# Altium schematic symbol library WE-SPXO.SchLib: 254 symbols (part 3 of 5)
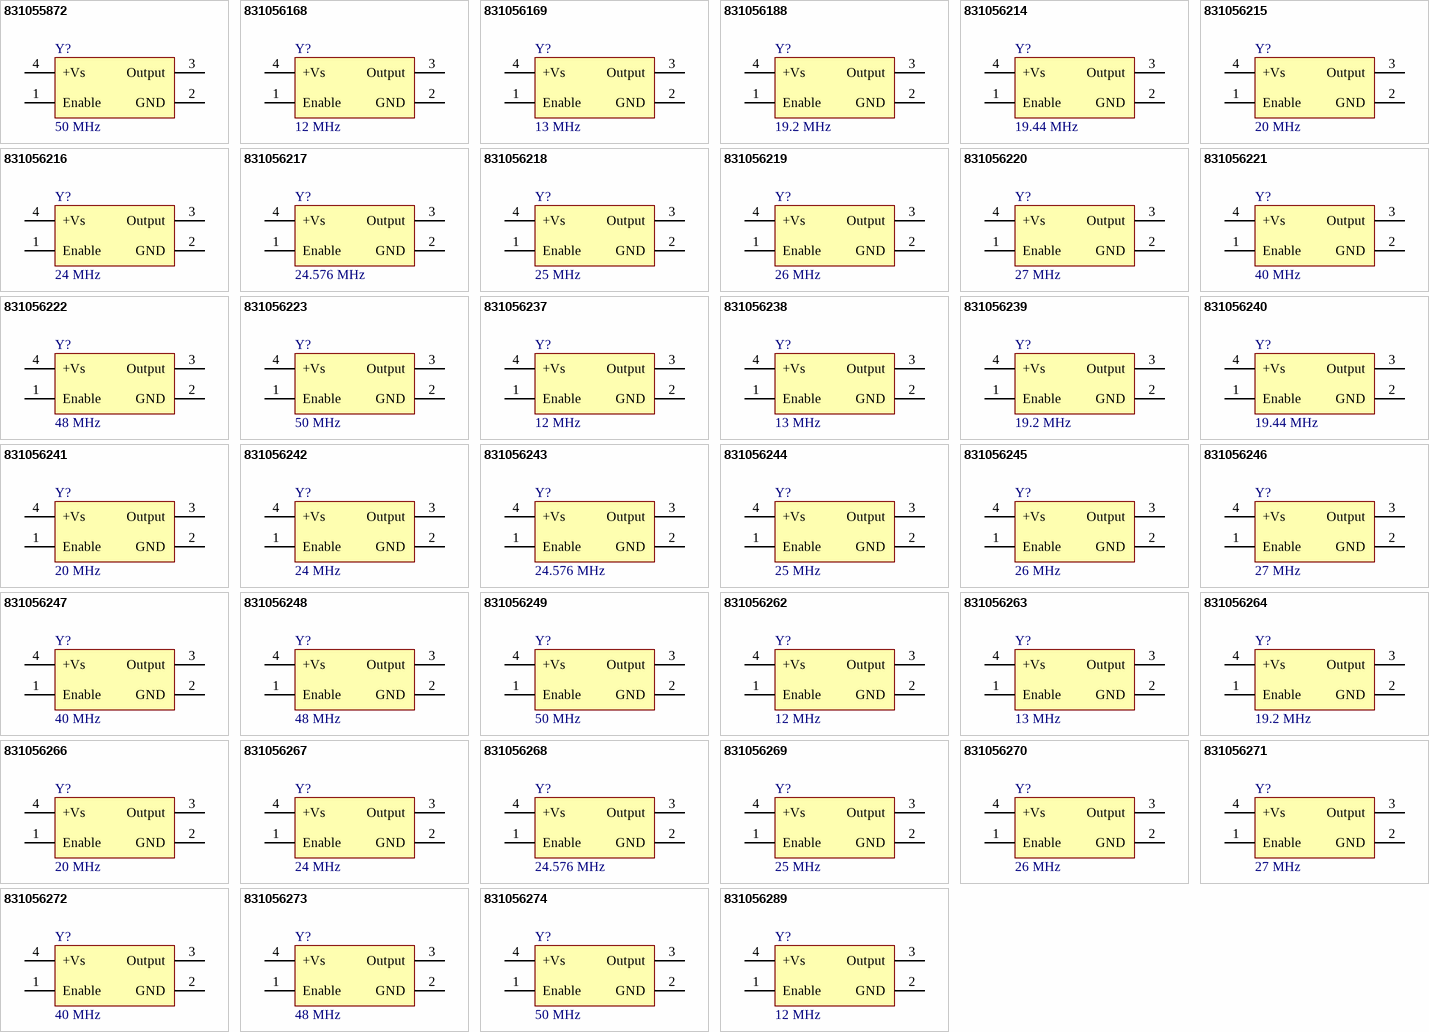
[diagram p8: symbols 831055872 to 831056289]

## 831056272
designator Y?, comment 40 MHz
WE-SPXO Simple Packaged Quartz Oscillator, IQXO-794, 40 MHz, 50 ppm, 1.8 V; Manufacturer Part Number: 831056272; Manufacturer: Wurth Elektronik; Frequency Stability: 50 ppm; Output Logic: CMOS; Supply Voltage: 1.8 V; Category: Oscillators; Match Code: WE-SPXO; ComponentLink1Description: Website Link; ComponentLink1URL: https://www.we-online.com/redexpert/article/831056272?ad; ComponentLink2Description: Datasheet Link; ComponentLink2URL: https://www.we-online.com/redexpert/spec/831056272?ad; Mount: Surface Mount; Min Operating Temperature: -40 °C; Max Operating Temperature: 85 °C; Packaging: Tape and Reel; Case/Size Code: IQXO-794; Length: 2.5 mm; Width: 2 mm; Height: 1 mm; Application: Processor, USB, 3G/4G/5G, CAN, Wi-Fi; Frequency: 40 MHz
footprint WE-SPXO_IQXO-794
pins: 1 Enable, 2 GND, 3 Output, 4 +Vs

## 831056273
designator Y?, comment 48 MHz
WE-SPXO Simple Packaged Quartz Oscillator, IQXO-794, 48 MHz, 50 ppm, 1.8 V; Manufacturer Part Number: 831056273; Manufacturer: Wurth Elektronik; Frequency Stability: 50 ppm; Output Logic: CMOS; Supply Voltage: 1.8 V; Category: Oscillators; Match Code: WE-SPXO; ComponentLink1Description: Website Link; ComponentLink1URL: https://www.we-online.com/redexpert/article/831056273?ad; ComponentLink2Description: Datasheet Link; ComponentLink2URL: https://www.we-online.com/redexpert/spec/831056273?ad; Mount: Surface Mount; Min Operating Temperature: -40 °C; Max Operating Temperature: 85 °C; Packaging: Tape and Reel; Case/Size Code: IQXO-794; Length: 2.5 mm; Width: 2 mm; Height: 1 mm; Application: Processor, USB, Wi-Fi; Frequency: 48 MHz
footprint WE-SPXO_IQXO-794
pins: 1 Enable, 2 GND, 3 Output, 4 +Vs

## 831056274
designator Y?, comment 50 MHz
WE-SPXO Simple Packaged Quartz Oscillator, IQXO-794, 50 MHz, 50 ppm, 1.8 V; Manufacturer Part Number: 831056274; Manufacturer: Wurth Elektronik; Frequency Stability: 50 ppm; Output Logic: CMOS; Supply Voltage: 1.8 V; Category: Oscillators; Match Code: WE-SPXO; ComponentLink1Description: Website Link; ComponentLink1URL: https://www.we-online.com/redexpert/article/831056274?ad; ComponentLink2Description: Datasheet Link; ComponentLink2URL: https://www.we-online.com/redexpert/spec/831056274?ad; Mount: Surface Mount; Min Operating Temperature: -40 °C; Max Operating Temperature: 85 °C; Packaging: Tape and Reel; Case/Size Code: IQXO-794; Length: 2.5 mm; Width: 2 mm; Height: 1 mm; Application: Processor, Ethernet, PCI Express, PHY; Frequency: 50 MHz
footprint WE-SPXO_IQXO-794
pins: 1 Enable, 2 GND, 3 Output, 4 +Vs

## 831056289
designator Y?, comment 12 MHz
WE-SPXO Simple Packaged Quartz Oscillator, IQXO-791, 12 MHz, 50 ppm, 3.3 V; Manufacturer Part Number: 831056289; Manufacturer: Wurth Elektronik; Frequency Stability: 50 ppm; Output Logic: CMOS; Supply Voltage: 3.3 V; Category: Oscillators; Match Code: WE-SPXO; ComponentLink1Description: Website Link; ComponentLink1URL: https://www.we-online.com/redexpert/article/831056289?ad; ComponentLink2Description: Datasheet Link; ComponentLink2URL: https://www.we-online.com/redexpert/spec/831056289?ad; Mount: Surface Mount; Min Operating Temperature: -40 °C; Max Operating Temperature: 85 °C; Packaging: Tape and Reel; Case/Size Code: IQXO-791; Length: 2.5 mm; Width: 2 mm; Height: 1 mm; Application: Processor, USB, CAN; Frequency: 12 MHz
footprint WE-SPXO_IQXO-791
pins: 1 Enable, 2 GND, 3 Output, 4 +Vs

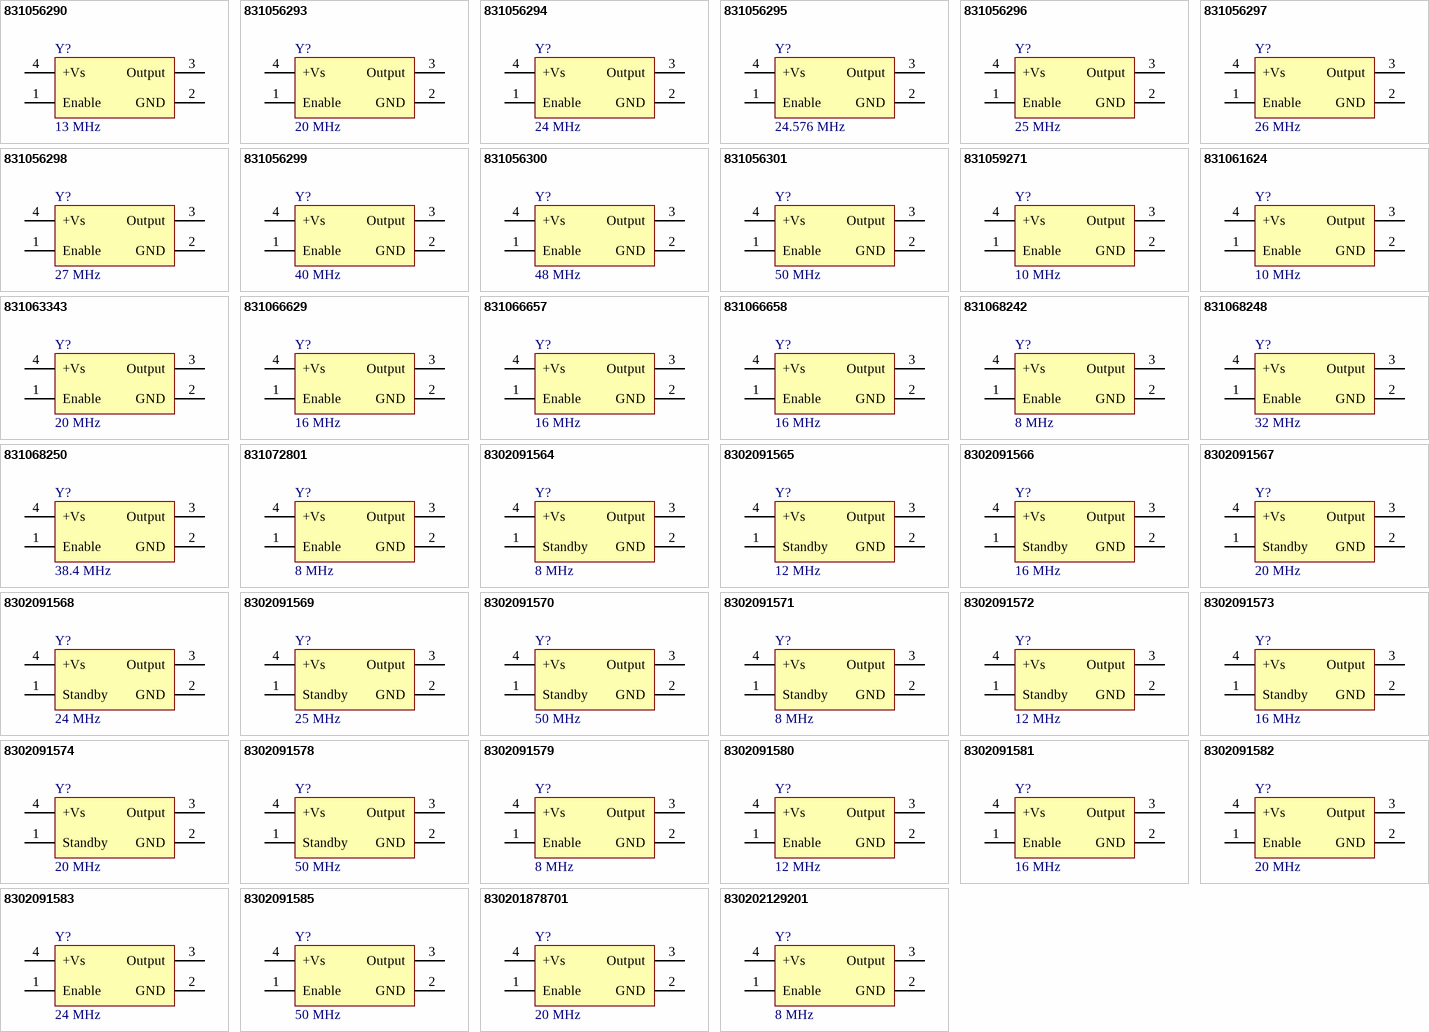
[diagram p3: symbols 831056290 to 830202129201]

## 831056290
designator Y?, comment 13 MHz
WE-SPXO Simple Packaged Quartz Oscillator, IQXO-791, 13 MHz, 50 ppm, 3.3 V; Manufacturer Part Number: 831056290; Manufacturer: Wurth Elektronik; Frequency Stability: 50 ppm; Output Logic: CMOS; Supply Voltage: 3.3 V; Category: Oscillators; Match Code: WE-SPXO; ComponentLink1Description: Website Link; ComponentLink1URL: https://www.we-online.com/redexpert/article/831056290?ad; ComponentLink2Description: Datasheet Link; ComponentLink2URL: https://www.we-online.com/redexpert/spec/831056290?ad; Mount: Surface Mount; Min Operating Temperature: -40 °C; Max Operating Temperature: 85 °C; Packaging: Tape and Reel; Case/Size Code: IQXO-791; Length: 2.5 mm; Width: 2 mm; Height: 1 mm; Application: Processor; Frequency: 13 MHz
footprint WE-SPXO_IQXO-791
pins: 1 Enable, 2 GND, 3 Output, 4 +Vs

## 831056293
designator Y?, comment 20 MHz
WE-SPXO Simple Packaged Quartz Oscillator, IQXO-791, 20 MHz, 50 ppm, 3.3 V; Manufacturer Part Number: 831056293; Manufacturer: Wurth Elektronik; Frequency Stability: 50 ppm; Output Logic: CMOS; Supply Voltage: 3.3 V; Category: Oscillators; Match Code: WE-SPXO; ComponentLink1Description: Website Link; ComponentLink1URL: https://www.we-online.com/redexpert/article/831056293?ad; ComponentLink2Description: Datasheet Link; ComponentLink2URL: https://www.we-online.com/redexpert/spec/831056293?ad; Mount: Surface Mount; Min Operating Temperature: -40 °C; Max Operating Temperature: 85 °C; Packaging: Tape and Reel; Case/Size Code: IQXO-791; Length: 2.5 mm; Width: 2 mm; Height: 1 mm; Application: Processor, CAN, USB, Ethernet, Wi-Fi; Frequency: 20 MHz
footprint WE-SPXO_IQXO-791
pins: 1 Enable, 2 GND, 3 Output, 4 +Vs

## 831056294
designator Y?, comment 24 MHz
WE-SPXO Simple Packaged Quartz Oscillator, IQXO-791, 24 MHz, 50 ppm, 3.3 V; Manufacturer Part Number: 831056294; Manufacturer: Wurth Elektronik; Frequency Stability: 50 ppm; Output Logic: CMOS; Supply Voltage: 3.3 V; Category: Oscillators; Match Code: WE-SPXO; ComponentLink1Description: Website Link; ComponentLink1URL: https://www.we-online.com/redexpert/article/831056294?ad; ComponentLink2Description: Datasheet Link; ComponentLink2URL: https://www.we-online.com/redexpert/spec/831056294?ad; Mount: Surface Mount; Min Operating Temperature: -40 °C; Max Operating Temperature: 85 °C; Packaging: Tape and Reel; Case/Size Code: IQXO-791; Length: 2.5 mm; Width: 2 mm; Height: 1 mm; Application: Processor, USB, Bluetooth; Frequency: 24 MHz
footprint WE-SPXO_IQXO-791
pins: 1 Enable, 2 GND, 3 Output, 4 +Vs

## 831056295
designator Y?, comment 24.576 MHz
WE-SPXO Simple Packaged Quartz Oscillator, IQXO-791, 24.576 MHz, 50 ppm, 3.3 V; Manufacturer Part Number: 831056295; Manufacturer: Wurth Elektronik; Frequency Stability: 50 ppm; Output Logic: CMOS; Supply Voltage: 3.3 V; Category: Oscillators; Match Code: WE-SPXO; ComponentLink1Description: Website Link; ComponentLink1URL: https://www.we-online.com/redexpert/article/831056295?ad; ComponentLink2Description: Datasheet Link; ComponentLink2URL: https://www.we-online.com/redexpert/spec/831056295?ad; Mount: Surface Mount; Min Operating Temperature: -40 °C; Max Operating Temperature: 85 °C; Packaging: Tape and Reel; Case/Size Code: IQXO-791; Length: 2.5 mm; Width: 2 mm; Height: 1 mm; Application: UART, Audio; Frequency: 24.576 MHz
footprint WE-SPXO_IQXO-791
pins: 1 Enable, 2 GND, 3 Output, 4 +Vs

## 831056296
designator Y?, comment 25 MHz
WE-SPXO Simple Packaged Quartz Oscillator, IQXO-791, 25 MHz, 50 ppm, 3.3 V; Manufacturer Part Number: 831056296; Manufacturer: Wurth Elektronik; Frequency Stability: 50 ppm; Output Logic: CMOS; Supply Voltage: 3.3 V; Category: Oscillators; Match Code: WE-SPXO; ComponentLink1Description: Website Link; ComponentLink1URL: https://www.we-online.com/redexpert/article/831056296?ad; ComponentLink2Description: Datasheet Link; ComponentLink2URL: https://www.we-online.com/redexpert/spec/831056296?ad; Mount: Surface Mount; Min Operating Temperature: -40 °C; Max Operating Temperature: 85 °C; Packaging: Tape and Reel; Case/Size Code: IQXO-791; Length: 2.5 mm; Width: 2 mm; Height: 1 mm; Application: Processor, USB, 3G/4G/5G, Ethernet, Small Cell, PHY, PCI Express; Frequency: 25 MHz
footprint WE-SPXO_IQXO-791
pins: 1 Enable, 2 GND, 3 Output, 4 +Vs

## 831056297
designator Y?, comment 26 MHz
WE-SPXO Simple Packaged Quartz Oscillator, IQXO-791, 26 MHz, 50 ppm, 3.3 V; Manufacturer Part Number: 831056297; Manufacturer: Wurth Elektronik; Frequency Stability: 50 ppm; Output Logic: CMOS; Supply Voltage: 3.3 V; Category: Oscillators; Match Code: WE-SPXO; ComponentLink1Description: Website Link; ComponentLink1URL: https://www.we-online.com/redexpert/article/831056297?ad; ComponentLink2Description: Datasheet Link; ComponentLink2URL: https://www.we-online.com/redexpert/spec/831056297?ad; Mount: Surface Mount; Min Operating Temperature: -40 °C; Max Operating Temperature: 85 °C; Packaging: Tape and Reel; Case/Size Code: IQXO-791; Length: 2.5 mm; Width: 2 mm; Height: 1 mm; Application: CAN, Bluetooth, GPS, Small Cell; Frequency: 26 MHz
footprint WE-SPXO_IQXO-791
pins: 1 Enable, 2 GND, 3 Output, 4 +Vs

## 831056298
designator Y?, comment 27 MHz
WE-SPXO Simple Packaged Quartz Oscillator, IQXO-791, 27 MHz, 50 ppm, 3.3 V; Manufacturer Part Number: 831056298; Manufacturer: Wurth Elektronik; Frequency Stability: 50 ppm; Output Logic: CMOS; Supply Voltage: 3.3 V; Category: Oscillators; Match Code: WE-SPXO; ComponentLink1Description: Website Link; ComponentLink1URL: https://www.we-online.com/redexpert/article/831056298?ad; ComponentLink2Description: Datasheet Link; ComponentLink2URL: https://www.we-online.com/redexpert/spec/831056298?ad; Mount: Surface Mount; Min Operating Temperature: -40 °C; Max Operating Temperature: 85 °C; Packaging: Tape and Reel; Case/Size Code: IQXO-791; Length: 2.5 mm; Width: 2 mm; Height: 1 mm; Application: Processor; Frequency: 27 MHz
footprint WE-SPXO_IQXO-791
pins: 1 Enable, 2 GND, 3 Output, 4 +Vs

## 831056299
designator Y?, comment 40 MHz
WE-SPXO Simple Packaged Quartz Oscillator, IQXO-791, 40 MHz, 50 ppm, 3.3 V; Manufacturer Part Number: 831056299; Manufacturer: Wurth Elektronik; Frequency Stability: 50 ppm; Output Logic: CMOS; Supply Voltage: 3.3 V; Category: Oscillators; Match Code: WE-SPXO; ComponentLink1Description: Website Link; ComponentLink1URL: https://www.we-online.com/redexpert/article/831056299?ad; ComponentLink2Description: Datasheet Link; ComponentLink2URL: https://www.we-online.com/redexpert/spec/831056299?ad; Mount: Surface Mount; Min Operating Temperature: -40 °C; Max Operating Temperature: 85 °C; Packaging: Tape and Reel; Case/Size Code: IQXO-791; Length: 2.5 mm; Width: 2 mm; Height: 1 mm; Application: Processor, USB, 3G/4G/5G, CAN, Wi-Fi; Frequency: 40 MHz
footprint WE-SPXO_IQXO-791
pins: 1 Enable, 2 GND, 3 Output, 4 +Vs

## 831056300
designator Y?, comment 48 MHz
WE-SPXO Simple Packaged Quartz Oscillator, IQXO-791, 48 MHz, 50 ppm, 3.3 V; Manufacturer Part Number: 831056300; Manufacturer: Wurth Elektronik; Frequency Stability: 50 ppm; Output Logic: CMOS; Supply Voltage: 3.3 V; Category: Oscillators; Match Code: WE-SPXO; ComponentLink1Description: Website Link; ComponentLink1URL: https://www.we-online.com/redexpert/article/831056300?ad; ComponentLink2Description: Datasheet Link; ComponentLink2URL: https://www.we-online.com/redexpert/spec/831056300?ad; Mount: Surface Mount; Min Operating Temperature: -40 °C; Max Operating Temperature: 85 °C; Packaging: Tape and Reel; Case/Size Code: IQXO-791; Length: 2.5 mm; Width: 2 mm; Height: 1 mm; Application: Processor, USB, Wi-Fi; Frequency: 48 MHz
footprint WE-SPXO_IQXO-791
pins: 1 Enable, 2 GND, 3 Output, 4 +Vs

## 831056301
designator Y?, comment 50 MHz
WE-SPXO Simple Packaged Quartz Oscillator, IQXO-791, 50 MHz, 50 ppm, 3.3 V; Manufacturer Part Number: 831056301; Manufacturer: Wurth Elektronik; Frequency Stability: 50 ppm; Output Logic: CMOS; Supply Voltage: 3.3 V; Category: Oscillators; Match Code: WE-SPXO; ComponentLink1Description: Website Link; ComponentLink1URL: https://www.we-online.com/redexpert/article/831056301?ad; ComponentLink2Description: Datasheet Link; ComponentLink2URL: https://www.we-online.com/redexpert/spec/831056301?ad; Mount: Surface Mount; Min Operating Temperature: -40 °C; Max Operating Temperature: 85 °C; Packaging: Tape and Reel; Case/Size Code: IQXO-791; Length: 2.5 mm; Width: 2 mm; Height: 1 mm; Application: Processor, Ethernet, PCI Express, PHY; Frequency: 50 MHz
footprint WE-SPXO_IQXO-791
pins: 1 Enable, 2 GND, 3 Output, 4 +Vs

## 831059271
designator Y?, comment 10 MHz
WE-SPXO Simple Packaged Quartz Oscillator, CFPS-39, 10 MHz, 25 ppm, 3.3 V; Manufacturer Part Number: 831059271; Manufacturer: Wurth Elektronik; Frequency Stability: 25 ppm; Output Logic: CMOS; Supply Voltage: 3.3 V; Category: Oscillators; Match Code: WE-SPXO; ComponentLink1Description: Website Link; ComponentLink1URL: https://www.we-online.com/redexpert/article/831059271?ad; ComponentLink2Description: Datasheet Link; ComponentLink2URL: https://www.we-online.com/redexpert/spec/831059271?ad; Mount: Surface Mount; Min Operating Temperature: -40 °C; Max Operating Temperature: 85 °C; Packaging: Tape and Reel; Case/Size Code: CFPS-39; Length: 3.2 mm; Width: 2.5 mm; Height: 1.2 mm; Application: Processor, Ethernet; Frequency: 10 MHz
footprint WE-SPXO_CFPS-39
pins: 1 Enable, 2 GND, 3 Output, 4 +Vs

## 831061624
designator Y?, comment 10 MHz
WE-SPXO Simple Packaged Quartz Oscillator, IQXO-791, 10 MHz, 50 ppm, 3.3 V; Manufacturer Part Number: 831061624; Manufacturer: Wurth Elektronik; Frequency Stability: 50 ppm; Output Logic: CMOS; Supply Voltage: 3.3 V; Category: Oscillators; Match Code: WE-SPXO; ComponentLink1Description: Website Link; ComponentLink1URL: https://www.we-online.com/redexpert/article/831061624?ad; ComponentLink2Description: Datasheet Link; ComponentLink2URL: https://www.we-online.com/redexpert/spec/831061624?ad; Mount: Surface Mount; Min Operating Temperature: -40 °C; Max Operating Temperature: 85 °C; Packaging: Tape and Reel; Case/Size Code: IQXO-791; Length: 2.5 mm; Width: 2 mm; Height: 1 mm; Application: Processor, Ethernet; Frequency: 10 MHz
footprint WE-SPXO_IQXO-791
pins: 1 Enable, 2 GND, 3 Output, 4 +Vs

## 831063343
designator Y?, comment 20 MHz
WE-SPXO Simple Packaged Quartz Oscillator, CFPS-39, 20 MHz, 25 ppm, 3.3 V; Manufacturer Part Number: 831063343; Manufacturer: Wurth Elektronik; Frequency Stability: 25 ppm; Output Logic: CMOS; Supply Voltage: 3.3 V; Category: Oscillators; Match Code: WE-SPXO; ComponentLink1Description: Website Link; ComponentLink1URL: https://www.we-online.com/redexpert/article/831063343?ad; ComponentLink2Description: Datasheet Link; ComponentLink2URL: https://www.we-online.com/redexpert/spec/831063343?ad; Mount: Surface Mount; Min Operating Temperature: -40 °C; Max Operating Temperature: 85 °C; Packaging: Tape and Reel; Case/Size Code: CFPS-39; Length: 3.2 mm; Width: 2.5 mm; Height: 1.2 mm; Application: Processor, CAN, USB, Ethernet, Wi-Fi; Frequency: 20 MHz
footprint WE-SPXO_CFPS-39
pins: 1 Enable, 2 GND, 3 Output, 4 +Vs

## 831066629
designator Y?, comment 16 MHz
WE-SPXO Simple Packaged Quartz Oscillator, IQXO-540, 16 MHz, 50 ppm, 3.3 V; Manufacturer Part Number: 831066629; Manufacturer: Wurth Elektronik; Frequency Stability: 50 ppm; Output Logic: CMOS; Supply Voltage: 3.3 V; Category: Oscillators; Match Code: WE-SPXO; ComponentLink1Description: Website Link; ComponentLink1URL: https://www.we-online.com/redexpert/article/831066629?ad; ComponentLink2Description: Datasheet Link; ComponentLink2URL: https://www.we-online.com/redexpert/spec/831066629?ad; Mount: Surface Mount; Min Operating Temperature: -40 °C; Max Operating Temperature: 85 °C; Packaging: Tape and Reel; Case/Size Code: IQXO-540; Length: 2 mm; Width: 1.6 mm; Height: 0.8 mm; Application: Processor, CAN, Bluetooth; Frequency: 16 MHz
footprint WE-SPXO_IQXO-540
pins: 1 Enable, 2 GND, 3 Output, 4 +Vs

## 831066657
designator Y?, comment 16 MHz
WE-SPXO Simple Packaged Quartz Oscillator, IQXO-791, 16 MHz, 50 ppm, 3.3 V; Manufacturer Part Number: 831066657; Manufacturer: Wurth Elektronik; Frequency Stability: 50 ppm; Output Logic: CMOS; Supply Voltage: 3.3 V; Category: Oscillators; Match Code: WE-SPXO; ComponentLink1Description: Website Link; ComponentLink1URL: https://www.we-online.com/redexpert/article/831066657?ad; ComponentLink2Description: Datasheet Link; ComponentLink2URL: https://www.we-online.com/redexpert/spec/831066657?ad; Mount: Surface Mount; Min Operating Temperature: -40 °C; Max Operating Temperature: 85 °C; Packaging: Tape and Reel; Case/Size Code: IQXO-791; Length: 2.5 mm; Width: 2 mm; Height: 1 mm; Application: Processor, CAN, Bluetooth; Frequency: 16 MHz
footprint WE-SPXO_IQXO-791
pins: 1 Enable, 2 GND, 3 Output, 4 +Vs

## 831066658
designator Y?, comment 16 MHz
WE-SPXO Simple Packaged Quartz Oscillator, IQXO-794, 16 MHz, 50 ppm, 1.8 V; Manufacturer Part Number: 831066658; Manufacturer: Wurth Elektronik; Frequency Stability: 50 ppm; Output Logic: CMOS; Supply Voltage: 1.8 V; Category: Oscillators; Match Code: WE-SPXO; ComponentLink1Description: Website Link; ComponentLink1URL: https://www.we-online.com/redexpert/article/831066658?ad; ComponentLink2Description: Datasheet Link; ComponentLink2URL: https://www.we-online.com/redexpert/spec/831066658?ad; Mount: Surface Mount; Min Operating Temperature: -40 °C; Max Operating Temperature: 85 °C; Packaging: Tape and Reel; Case/Size Code: IQXO-794; Length: 2.5 mm; Width: 2 mm; Height: 1 mm; Application: Processor, CAN, Bluetooth; Frequency: 16 MHz
footprint WE-SPXO_IQXO-794
pins: 1 Enable, 2 GND, 3 Output, 4 +Vs

## 831068242
designator Y?, comment 8 MHz
WE-SPXO Simple Packaged Quartz Oscillator, IQXO-540, 8 MHz, 50 ppm, 3.3 V; Manufacturer Part Number: 831068242; Manufacturer: Wurth Elektronik; Frequency Stability: 50 ppm; Output Logic: CMOS; Supply Voltage: 3.3 V; Category: Oscillators; Match Code: WE-SPXO; ComponentLink1Description: Website Link; ComponentLink1URL: https://www.we-online.com/redexpert/article/831068242?ad; ComponentLink2Description: Datasheet Link; ComponentLink2URL: https://www.we-online.com/redexpert/spec/831068242?ad; Mount: Surface Mount; Min Operating Temperature: -40 °C; Max Operating Temperature: 85 °C; Packaging: Tape and Reel; Case/Size Code: IQXO-540; Length: 2 mm; Width: 1.6 mm; Height: 0.8 mm; Application: Processor, UART; Frequency: 8 MHz
footprint WE-SPXO_IQXO-540
pins: 1 Enable, 2 GND, 3 Output, 4 +Vs

## 831068248
designator Y?, comment 32 MHz
WE-SPXO Simple Packaged Quartz Oscillator, IQXO-540, 32 MHz, 50 ppm, 3.3 V; Manufacturer Part Number: 831068248; Manufacturer: Wurth Elektronik; Frequency Stability: 50 ppm; Output Logic: CMOS; Supply Voltage: 3.3 V; Category: Oscillators; Match Code: WE-SPXO; ComponentLink1Description: Website Link; ComponentLink1URL: https://www.we-online.com/redexpert/article/831068248?ad; ComponentLink2Description: Datasheet Link; ComponentLink2URL: https://www.we-online.com/redexpert/spec/831068248?ad; Mount: Surface Mount; Min Operating Temperature: -40 °C; Max Operating Temperature: 85 °C; Packaging: Tape and Reel; Case/Size Code: IQXO-540; Length: 2 mm; Width: 1.6 mm; Height: 0.8 mm; Application: Processor, Bluetooth; Frequency: 32 MHz
footprint WE-SPXO_IQXO-540
pins: 1 Enable, 2 GND, 3 Output, 4 +Vs

## 831068250
designator Y?, comment 38.4 MHz
WE-SPXO Simple Packaged Quartz Oscillator, IQXO-540, 38.4 MHz, 50 ppm, 3.3 V; Manufacturer Part Number: 831068250; Manufacturer: Wurth Elektronik; Frequency Stability: 50 ppm; Output Logic: CMOS; Supply Voltage: 3.3 V; Category: Oscillators; Match Code: WE-SPXO; ComponentLink1Description: Website Link; ComponentLink1URL: https://www.we-online.com/redexpert/article/831068250?ad; ComponentLink2Description: Datasheet Link; ComponentLink2URL: https://www.we-online.com/redexpert/spec/831068250?ad; Mount: Surface Mount; Min Operating Temperature: -40 °C; Max Operating Temperature: 85 °C; Packaging: Tape and Reel; Case/Size Code: IQXO-540; Length: 2 mm; Width: 1.6 mm; Height: 0.8 mm; Application: 3G/4G/5G, Audio, Small Cell, UART; Frequency: 38.4 MHz
footprint WE-SPXO_IQXO-540
pins: 1 Enable, 2 GND, 3 Output, 4 +Vs

## 831072801
designator Y?, comment 8 MHz
WE-SPXO Simple Packaged Quartz Oscillator, IQXO-791, 8 MHz, 50 ppm, 3.3 V; Manufacturer Part Number: 831072801; Manufacturer: Wurth Elektronik; Frequency Stability: 50 ppm; Output Logic: CMOS; Supply Voltage: 3.3 V; Category: Oscillators; Match Code: WE-SPXO; ComponentLink1Description: Website Link; ComponentLink1URL: https://www.we-online.com/redexpert/article/831072801?ad; ComponentLink2Description: Datasheet Link; ComponentLink2URL: https://www.we-online.com/redexpert/spec/831072801?ad; Mount: Surface Mount; Min Operating Temperature: -40 °C; Max Operating Temperature: 85 °C; Packaging: Tape and Reel; Case/Size Code: IQXO-791; Length: 2.5 mm; Width: 2 mm; Height: 1 mm; Application: Processor, UART; Frequency: 8 MHz
footprint WE-SPXO_IQXO-791
pins: 1 Enable, 2 GND, 3 Output, 4 +Vs

## 8302091564
designator Y?, comment 8 MHz
WE-SPXO Simple Packaged Quartz Oscillator, IQXO-951 3225, 8 MHz, 50 ppm, 1.62 V to 3.63 V; Manufacturer Part Number: 8302091564; Manufacturer: Wurth Elektronik; Frequency Stability: 50 ppm; Output Logic: CMOS; Category: Oscillators; Match Code: WE-SPXO; ComponentLink1Description: Website Link; ComponentLink1URL: https://www.we-online.com/redexpert/article/8302091564?ad; ComponentLink2Description: Datasheet Link; ComponentLink2URL: https://www.we-online.com/redexpert/spec/8302091564?ad; Mount: Surface Mount; Min Operating Temperature: -40 °C; Max Operating Temperature: 105 °C; Packaging: Tape and Reel; Case/Size Code: IQXO-951 3225; Length: 3.2 mm; Width: 2.5 mm; Height: 1.2 mm; Application: Processor, UART; Frequency: 8 MHz; Supply Voltage: 1.62 V to 3.63 V
footprint WE-SPXO_IQXO-951 3225
pins: 1 Standby, 2 GND, 3 Output, 4 +Vs

## 8302091565
designator Y?, comment 12 MHz
WE-SPXO Simple Packaged Quartz Oscillator, IQXO-951 3225, 12 MHz, 50 ppm, 1.62 V to 3.63 V; Manufacturer Part Number: 8302091565; Manufacturer: Wurth Elektronik; Frequency Stability: 50 ppm; Output Logic: CMOS; Category: Oscillators; Match Code: WE-SPXO; ComponentLink1Description: Website Link; ComponentLink1URL: https://www.we-online.com/redexpert/article/8302091565?ad; ComponentLink2Description: Datasheet Link; ComponentLink2URL: https://www.we-online.com/redexpert/spec/8302091565?ad; Mount: Surface Mount; Min Operating Temperature: -40 °C; Max Operating Temperature: 105 °C; Packaging: Tape and Reel; Case/Size Code: IQXO-951 3225; Length: 3.2 mm; Width: 2.5 mm; Height: 1.2 mm; Application: Processor, USB, CAN; Frequency: 12 MHz; Supply Voltage: 1.62 V to 3.63 V
footprint WE-SPXO_IQXO-951 3225
pins: 1 Standby, 2 GND, 3 Output, 4 +Vs

## 8302091566
designator Y?, comment 16 MHz
WE-SPXO Simple Packaged Quartz Oscillator, IQXO-951 3225, 16 MHz, 50 ppm, 1.62 V to 3.63 V; Manufacturer Part Number: 8302091566; Manufacturer: Wurth Elektronik; Frequency Stability: 50 ppm; Output Logic: CMOS; Category: Oscillators; Match Code: WE-SPXO; ComponentLink1Description: Website Link; ComponentLink1URL: https://www.we-online.com/redexpert/article/8302091566?ad; ComponentLink2Description: Datasheet Link; ComponentLink2URL: https://www.we-online.com/redexpert/spec/8302091566?ad; Mount: Surface Mount; Min Operating Temperature: -40 °C; Max Operating Temperature: 105 °C; Packaging: Tape and Reel; Case/Size Code: IQXO-951 3225; Length: 3.2 mm; Width: 2.5 mm; Height: 1.2 mm; Application: Processor, CAN, Bluetooth; Frequency: 16 MHz; Supply Voltage: 1.62 V to 3.63 V
footprint WE-SPXO_IQXO-951 3225
pins: 1 Standby, 2 GND, 3 Output, 4 +Vs

## 8302091567
designator Y?, comment 20 MHz
WE-SPXO Simple Packaged Quartz Oscillator, IQXO-951 3225, 20 MHz, 50 ppm, 1.62 V to 3.63 V; Manufacturer Part Number: 8302091567; Manufacturer: Wurth Elektronik; Frequency Stability: 50 ppm; Output Logic: CMOS; Category: Oscillators; Match Code: WE-SPXO; ComponentLink1Description: Website Link; ComponentLink1URL: https://www.we-online.com/redexpert/article/8302091567?ad; ComponentLink2Description: Datasheet Link; ComponentLink2URL: https://www.we-online.com/redexpert/spec/8302091567?ad; Mount: Surface Mount; Min Operating Temperature: -40 °C; Max Operating Temperature: 105 °C; Packaging: Tape and Reel; Case/Size Code: IQXO-951 3225; Length: 3.2 mm; Width: 2.5 mm; Height: 1.2 mm; Application: Processor, CAN, USB, Ethernet, Wi-Fi; Frequency: 20 MHz; Supply Voltage: 1.62 V to 3.63 V
footprint WE-SPXO_IQXO-951 3225
pins: 1 Standby, 2 GND, 3 Output, 4 +Vs

## 8302091568
designator Y?, comment 24 MHz
WE-SPXO Simple Packaged Quartz Oscillator, IQXO-951 3225, 24 MHz, 50 ppm, 1.62 V to 3.63 V; Manufacturer Part Number: 8302091568; Manufacturer: Wurth Elektronik; Frequency Stability: 50 ppm; Output Logic: CMOS; Category: Oscillators; Match Code: WE-SPXO; ComponentLink1Description: Website Link; ComponentLink1URL: https://www.we-online.com/redexpert/article/8302091568?ad; ComponentLink2Description: Datasheet Link; ComponentLink2URL: https://www.we-online.com/redexpert/spec/8302091568?ad; Mount: Surface Mount; Min Operating Temperature: -40 °C; Max Operating Temperature: 105 °C; Packaging: Tape and Reel; Case/Size Code: IQXO-951 3225; Length: 3.2 mm; Width: 2.5 mm; Height: 1.2 mm; Application: Processor, USB, Bluetooth; Frequency: 24 MHz; Supply Voltage: 1.62 V to 3.63 V
footprint WE-SPXO_IQXO-951 3225
pins: 1 Standby, 2 GND, 3 Output, 4 +Vs

## 8302091569
designator Y?, comment 25 MHz
WE-SPXO Simple Packaged Quartz Oscillator, IQXO-951 3225, 25 MHz, 50 ppm, 1.62 V to 3.63 V; Manufacturer Part Number: 8302091569; Manufacturer: Wurth Elektronik; Frequency Stability: 50 ppm; Output Logic: CMOS; Category: Oscillators; Match Code: WE-SPXO; ComponentLink1Description: Website Link; ComponentLink1URL: https://www.we-online.com/redexpert/article/8302091569?ad; ComponentLink2Description: Datasheet Link; ComponentLink2URL: https://www.we-online.com/redexpert/spec/8302091569?ad; Mount: Surface Mount; Min Operating Temperature: -40 °C; Max Operating Temperature: 105 °C; Packaging: Tape and Reel; Case/Size Code: IQXO-951 3225; Length: 3.2 mm; Width: 2.5 mm; Height: 1.2 mm; Application: Processor, USB, 3G/4G/5G, Ethernet, Small Cell, PHY, PCI Express; Frequency: 25 MHz; Supply Voltage: 1.62 V to 3.63 V
footprint WE-SPXO_IQXO-951 3225
pins: 1 Standby, 2 GND, 3 Output, 4 +Vs

## 8302091570
designator Y?, comment 50 MHz
WE-SPXO Simple Packaged Quartz Oscillator, IQXO-951 3225, 50 MHz, 50 ppm, 1.62 V to 3.63 V; Manufacturer Part Number: 8302091570; Manufacturer: Wurth Elektronik; Frequency Stability: 50 ppm; Output Logic: CMOS; Category: Oscillators; Match Code: WE-SPXO; ComponentLink1Description: Website Link; ComponentLink1URL: https://www.we-online.com/redexpert/article/8302091570?ad; ComponentLink2Description: Datasheet Link; ComponentLink2URL: https://www.we-online.com/redexpert/spec/8302091570?ad; Mount: Surface Mount; Min Operating Temperature: -40 °C; Max Operating Temperature: 105 °C; Packaging: Tape and Reel; Case/Size Code: IQXO-951 3225; Length: 3.2 mm; Width: 2.5 mm; Height: 1.2 mm; Application: Processor, Ethernet, PCI Express, PHY; Frequency: 50 MHz; Supply Voltage: 1.62 V to 3.63 V
footprint WE-SPXO_IQXO-951 3225
pins: 1 Standby, 2 GND, 3 Output, 4 +Vs

## 8302091571
designator Y?, comment 8 MHz
WE-SPXO Simple Packaged Quartz Oscillator, IQXO-951 2520, 8 MHz, 50 ppm, 1.62 V to 3.63 V; Manufacturer Part Number: 8302091571; Manufacturer: Wurth Elektronik; Frequency Stability: 50 ppm; Output Logic: CMOS; Category: Oscillators; Match Code: WE-SPXO; ComponentLink1Description: Website Link; ComponentLink1URL: https://www.we-online.com/redexpert/article/8302091571?ad; ComponentLink2Description: Datasheet Link; ComponentLink2URL: https://www.we-online.com/redexpert/spec/8302091571?ad; Mount: Surface Mount; Min Operating Temperature: -40 °C; Max Operating Temperature: 105 °C; Packaging: Tape and Reel; Case/Size Code: IQXO-951 2520; Length: 2.5 mm; Width: 2 mm; Height: 0.95 mm; Application: Processor, UART; Frequency: 8 MHz; Supply Voltage: 1.62 V to 3.63 V
footprint WE-SPXO_IQXO-951 2520
pins: 1 Standby, 2 GND, 3 Output, 4 +Vs

## 8302091572
designator Y?, comment 12 MHz
WE-SPXO Simple Packaged Quartz Oscillator, IQXO-951 2520, 12 MHz, 50 ppm, 1.62 V to 3.63 V; Manufacturer Part Number: 8302091572; Manufacturer: Wurth Elektronik; Frequency Stability: 50 ppm; Output Logic: CMOS; Category: Oscillators; Match Code: WE-SPXO; ComponentLink1Description: Website Link; ComponentLink1URL: https://www.we-online.com/redexpert/article/8302091572?ad; ComponentLink2Description: Datasheet Link; ComponentLink2URL: https://www.we-online.com/redexpert/spec/8302091572?ad; Mount: Surface Mount; Min Operating Temperature: -40 °C; Max Operating Temperature: 105 °C; Packaging: Tape and Reel; Case/Size Code: IQXO-951 2520; Length: 2.5 mm; Width: 2 mm; Height: 0.95 mm; Application: Processor, USB, CAN; Frequency: 12 MHz; Supply Voltage: 1.62 V to 3.63 V
footprint WE-SPXO_IQXO-951 2520
pins: 1 Standby, 2 GND, 3 Output, 4 +Vs

## 8302091573
designator Y?, comment 16 MHz
WE-SPXO Simple Packaged Quartz Oscillator, IQXO-951 2520, 16 MHz, 50 ppm, 1.62 V to 3.63 V; Manufacturer Part Number: 8302091573; Manufacturer: Wurth Elektronik; Frequency Stability: 50 ppm; Output Logic: CMOS; Category: Oscillators; Match Code: WE-SPXO; ComponentLink1Description: Website Link; ComponentLink1URL: https://www.we-online.com/redexpert/article/8302091573?ad; ComponentLink2Description: Datasheet Link; ComponentLink2URL: https://www.we-online.com/redexpert/spec/8302091573?ad; Mount: Surface Mount; Min Operating Temperature: -40 °C; Max Operating Temperature: 105 °C; Packaging: Tape and Reel; Case/Size Code: IQXO-951 2520; Length: 2.5 mm; Width: 2 mm; Height: 0.95 mm; Application: Processor, CAN, Bluetooth; Frequency: 16 MHz; Supply Voltage: 1.62 V to 3.63 V
footprint WE-SPXO_IQXO-951 2520
pins: 1 Standby, 2 GND, 3 Output, 4 +Vs

## 8302091574
designator Y?, comment 20 MHz
WE-SPXO Simple Packaged Quartz Oscillator, IQXO-951 2520, 20 MHz, 50 ppm, 1.62 V to 3.63 V; Manufacturer Part Number: 8302091574; Manufacturer: Wurth Elektronik; Frequency Stability: 50 ppm; Output Logic: CMOS; Category: Oscillators; Match Code: WE-SPXO; ComponentLink1Description: Website Link; ComponentLink1URL: https://www.we-online.com/redexpert/article/8302091574?ad; ComponentLink2Description: Datasheet Link; ComponentLink2URL: https://www.we-online.com/redexpert/spec/8302091574?ad; Mount: Surface Mount; Min Operating Temperature: -40 °C; Max Operating Temperature: 105 °C; Packaging: Tape and Reel; Case/Size Code: IQXO-951 2520; Length: 2.5 mm; Width: 2 mm; Height: 0.95 mm; Application: Processor, CAN, USB, Ethernet, Wi-Fi; Frequency: 20 MHz; Supply Voltage: 1.62 V to 3.63 V
footprint WE-SPXO_IQXO-951 2520
pins: 1 Standby, 2 GND, 3 Output, 4 +Vs

## 8302091578
designator Y?, comment 50 MHz
WE-SPXO Simple Packaged Quartz Oscillator, IQXO-951 2520, 50 MHz, 50 ppm, 1.62 V to 3.63 V; Manufacturer Part Number: 8302091578; Manufacturer: Wurth Elektronik; Frequency Stability: 50 ppm; Output Logic: CMOS; Category: Oscillators; Match Code: WE-SPXO; ComponentLink1Description: Website Link; ComponentLink1URL: https://www.we-online.com/redexpert/article/8302091578?ad; ComponentLink2Description: Datasheet Link; ComponentLink2URL: https://www.we-online.com/redexpert/spec/8302091578?ad; Mount: Surface Mount; Min Operating Temperature: -40 °C; Max Operating Temperature: 105 °C; Packaging: Tape and Reel; Case/Size Code: IQXO-951 2520; Length: 2.5 mm; Width: 2 mm; Height: 0.95 mm; Application: Processor, Ethernet, PCI Express, PHY; Frequency: 50 MHz; Supply Voltage: 1.62 V to 3.63 V
footprint WE-SPXO_IQXO-951 2520
pins: 1 Standby, 2 GND, 3 Output, 4 +Vs

## 8302091579
designator Y?, comment 8 MHz
WE-SPXO Simple Packaged Quartz Oscillator, IQXO-951 2016, 8 MHz, 50 ppm, 1.62 V to 3.63 V; Manufacturer Part Number: 8302091579; Manufacturer: Wurth Elektronik; Frequency Stability: 50 ppm; Output Logic: CMOS; Category: Oscillators; Match Code: WE-SPXO; ComponentLink1Description: Website Link; ComponentLink1URL: https://www.we-online.com/redexpert/article/8302091579?ad; ComponentLink2Description: Datasheet Link; ComponentLink2URL: https://www.we-online.com/redexpert/spec/8302091579?ad; Mount: Surface Mount; Min Operating Temperature: -40 °C; Max Operating Temperature: 105 °C; Packaging: Tape and Reel; Case/Size Code: IQXO-951 2016; Length: 2 mm; Width: 1.6 mm; Height: 0.8 mm; Application: Processor, UART; Frequency: 8 MHz; Supply Voltage: 1.62 V to 3.63 V
footprint WE-SPXO_IQXO-951 2016
pins: 1 Enable, 2 GND, 3 Output, 4 +Vs

## 8302091580
designator Y?, comment 12 MHz
WE-SPXO Simple Packaged Quartz Oscillator, IQXO-951 2016, 12 MHz, 50 ppm, 1.62 V to 3.63 V; Manufacturer Part Number: 8302091580; Manufacturer: Wurth Elektronik; Frequency Stability: 50 ppm; Output Logic: CMOS; Category: Oscillators; Match Code: WE-SPXO; ComponentLink1Description: Website Link; ComponentLink1URL: https://www.we-online.com/redexpert/article/8302091580?ad; ComponentLink2Description: Datasheet Link; ComponentLink2URL: https://www.we-online.com/redexpert/spec/8302091580?ad; Mount: Surface Mount; Min Operating Temperature: -40 °C; Max Operating Temperature: 105 °C; Packaging: Tape and Reel; Case/Size Code: IQXO-951 2016; Length: 2 mm; Width: 1.6 mm; Height: 0.8 mm; Application: Processor, USB, CAN; Frequency: 12 MHz; Supply Voltage: 1.62 V to 3.63 V
footprint WE-SPXO_IQXO-951 2016
pins: 1 Enable, 2 GND, 3 Output, 4 +Vs

## 8302091581
designator Y?, comment 16 MHz
WE-SPXO Simple Packaged Quartz Oscillator, IQXO-951 2016, 16 MHz, 50 ppm, 1.62 V to 3.63 V; Manufacturer Part Number: 8302091581; Manufacturer: Wurth Elektronik; Frequency Stability: 50 ppm; Output Logic: CMOS; Category: Oscillators; Match Code: WE-SPXO; ComponentLink1Description: Website Link; ComponentLink1URL: https://www.we-online.com/redexpert/article/8302091581?ad; ComponentLink2Description: Datasheet Link; ComponentLink2URL: https://www.we-online.com/redexpert/spec/8302091581?ad; Mount: Surface Mount; Min Operating Temperature: -40 °C; Max Operating Temperature: 105 °C; Packaging: Tape and Reel; Case/Size Code: IQXO-951 2016; Length: 2 mm; Width: 1.6 mm; Height: 0.8 mm; Application: Processor, CAN, Bluetooth; Frequency: 16 MHz; Supply Voltage: 1.62 V to 3.63 V
footprint WE-SPXO_IQXO-951 2016
pins: 1 Enable, 2 GND, 3 Output, 4 +Vs

## 8302091582
designator Y?, comment 20 MHz
WE-SPXO Simple Packaged Quartz Oscillator, IQXO-951 2016, 20 MHz, 50 ppm, 1.62 V to 3.63 V; Manufacturer Part Number: 8302091582; Manufacturer: Wurth Elektronik; Frequency Stability: 50 ppm; Output Logic: CMOS; Category: Oscillators; Match Code: WE-SPXO; ComponentLink1Description: Website Link; ComponentLink1URL: https://www.we-online.com/redexpert/article/8302091582?ad; ComponentLink2Description: Datasheet Link; ComponentLink2URL: https://www.we-online.com/redexpert/spec/8302091582?ad; Mount: Surface Mount; Min Operating Temperature: -40 °C; Max Operating Temperature: 105 °C; Packaging: Tape and Reel; Case/Size Code: IQXO-951 2016; Length: 2 mm; Width: 1.6 mm; Height: 0.8 mm; Application: Processor, CAN, USB, Ethernet, Wi-Fi; Frequency: 20 MHz; Supply Voltage: 1.62 V to 3.63 V
footprint WE-SPXO_IQXO-951 2016
pins: 1 Enable, 2 GND, 3 Output, 4 +Vs

## 8302091583
designator Y?, comment 24 MHz
WE-SPXO Simple Packaged Quartz Oscillator, IQXO-951 2016, 24 MHz, 50 ppm, 1.62 V to 3.63 V; Manufacturer Part Number: 8302091583; Manufacturer: Wurth Elektronik; Frequency Stability: 50 ppm; Output Logic: CMOS; Category: Oscillators; Match Code: WE-SPXO; ComponentLink1Description: Website Link; ComponentLink1URL: https://www.we-online.com/redexpert/article/8302091583?ad; ComponentLink2Description: Datasheet Link; ComponentLink2URL: https://www.we-online.com/redexpert/spec/8302091583?ad; Mount: Surface Mount; Min Operating Temperature: -40 °C; Max Operating Temperature: 105 °C; Packaging: Tape and Reel; Case/Size Code: IQXO-951 2016; Length: 2 mm; Width: 1.6 mm; Height: 0.8 mm; Application: Processor, USB, Bluetooth; Frequency: 24 MHz; Supply Voltage: 1.62 V to 3.63 V
footprint WE-SPXO_IQXO-951 2016
pins: 1 Enable, 2 GND, 3 Output, 4 +Vs

## 8302091585
designator Y?, comment 50 MHz
WE-SPXO Simple Packaged Quartz Oscillator, IQXO-951 2016, 50 MHz, 50 ppm, 1.62 V to 3.63 V; Manufacturer Part Number: 8302091585; Manufacturer: Wurth Elektronik; Frequency Stability: 50 ppm; Output Logic: CMOS; Category: Oscillators; Match Code: WE-SPXO; ComponentLink1Description: Website Link; ComponentLink1URL: https://www.we-online.com/redexpert/article/8302091585?ad; ComponentLink2Description: Datasheet Link; ComponentLink2URL: https://www.we-online.com/redexpert/spec/8302091585?ad; Mount: Surface Mount; Min Operating Temperature: -40 °C; Max Operating Temperature: 105 °C; Packaging: Tape and Reel; Case/Size Code: IQXO-951 2016; Length: 2 mm; Width: 1.6 mm; Height: 0.8 mm; Application: Processor, Ethernet, PCI Express, PHY; Frequency: 50 MHz; Supply Voltage: 1.62 V to 3.63 V
footprint WE-SPXO_IQXO-951 2016
pins: 1 Enable, 2 GND, 3 Output, 4 +Vs

## 830201878701
designator Y?, comment 20 MHz
WE-SPXO Simple Packaged Quartz Oscillator, CFPS-72, 20 MHz, 50 ppm, 5 V; Manufacturer Part Number: 830201878701; Manufacturer: Wurth Elektronik; Frequency Stability: 50 ppm; Output Logic: CMOS; Supply Voltage: 5 V; Category: Oscillators; Match Code: WE-SPXO; ComponentLink1Description: Website Link; ComponentLink1URL: https://www.we-online.com/redexpert/article/830201878701?ad; ComponentLink2Description: Datasheet Link; ComponentLink2URL: https://www.we-online.com/redexpert/spec/830201878701?ad; Mount: Surface Mount; Min Operating Temperature: -40 °C; Max Operating Temperature: 85 °C; Packaging: Tape and Reel; Case/Size Code: CFPS-72; Length: 7 mm; Width: 5 mm; Height: 1.8 mm; Application: Processor, CAN, USB, Ethernet, Wi-Fi; Frequency: 20 MHz
footprint WE-SPXO_CFPS-72
pins: 1 Enable, 2 GND, 3 Output, 4 +Vs

## 830202129201
designator Y?, comment 8 MHz
WE-SPXO Simple Packaged Quartz Oscillator, CFPS-72, 8 MHz, 50 ppm, 5 V; Manufacturer Part Number: 830202129201; Manufacturer: Wurth Elektronik; Frequency Stability: 50 ppm; Output Logic: CMOS; Supply Voltage: 5 V; Category: Oscillators; Match Code: WE-SPXO; ComponentLink1Description: Website Link; ComponentLink1URL: https://www.we-online.com/redexpert/article/830202129201?ad; ComponentLink2Description: Datasheet Link; ComponentLink2URL: https://www.we-online.com/redexpert/spec/830202129201?ad; Mount: Surface Mount; Min Operating Temperature: -40 °C; Max Operating Temperature: 85 °C; Packaging: Tape and Reel; Case/Size Code: CFPS-72; Length: 7 mm; Width: 5 mm; Height: 1.8 mm; Application: Processor, UART; Frequency: 8 MHz
footprint WE-SPXO_CFPS-72
pins: 1 Enable, 2 GND, 3 Output, 4 +Vs

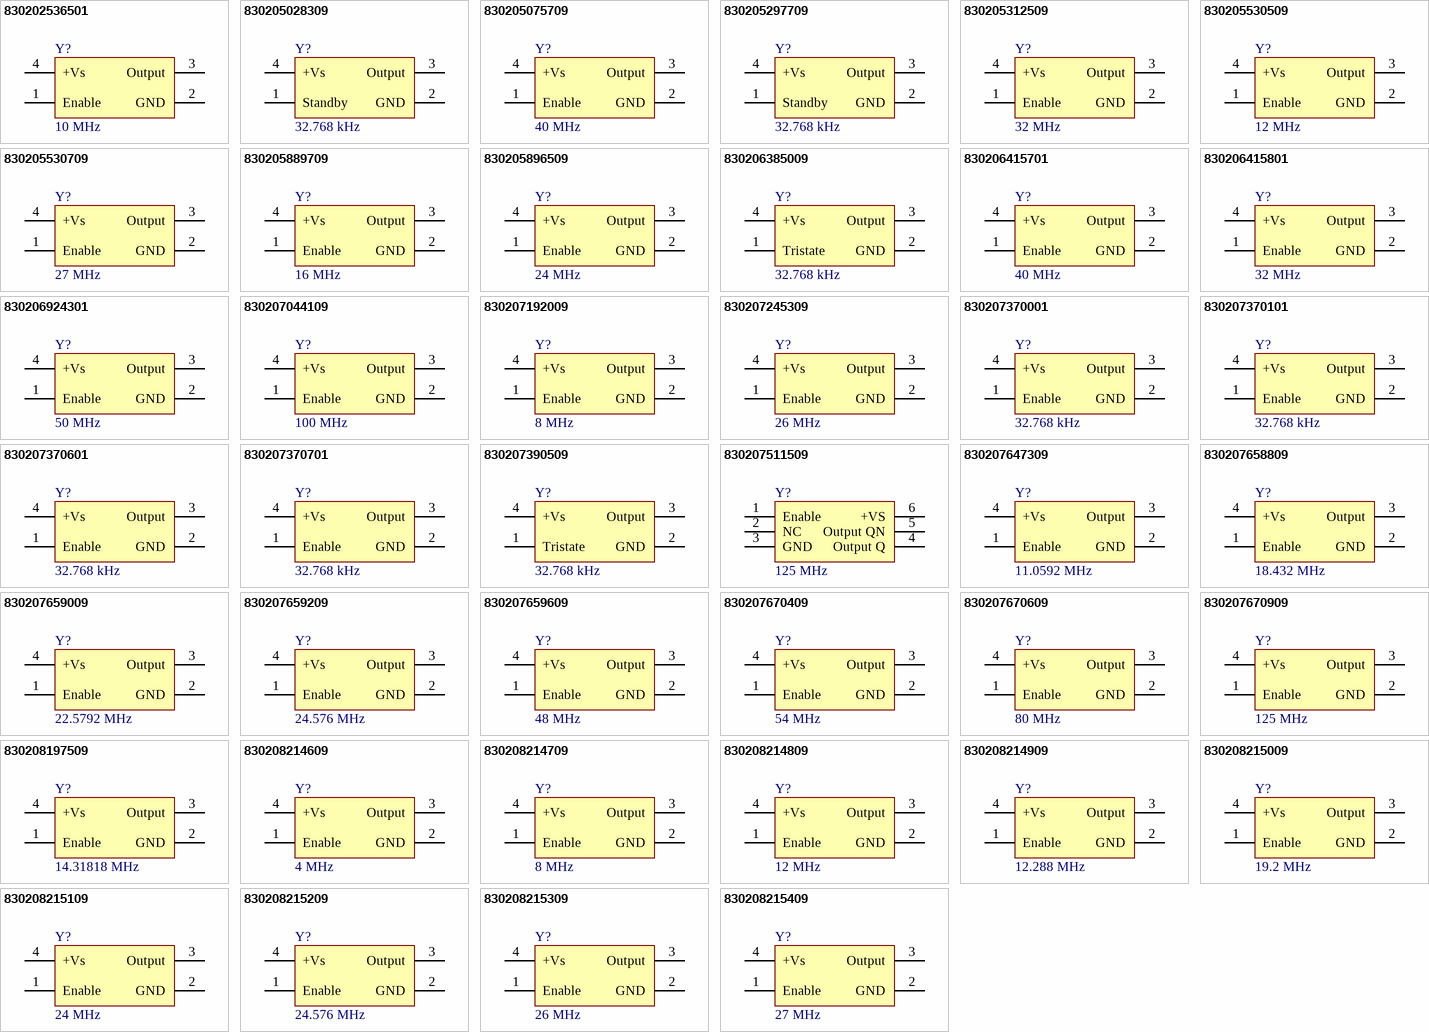
[diagram p4: symbols 830202536501 to 830208215409]

## 830202536501
designator Y?, comment 10 MHz
WE-SPXO Simple Packaged Quartz Oscillator, CFPS-72, 10 MHz, 25 ppm, 5 V; Manufacturer Part Number: 830202536501; Manufacturer: Wurth Elektronik; Frequency Stability: 25 ppm; Output Logic: CMOS; Supply Voltage: 5 V; Category: Oscillators; Match Code: WE-SPXO; ComponentLink1Description: Website Link; ComponentLink1URL: https://www.we-online.com/redexpert/article/830202536501?ad; ComponentLink2Description: Datasheet Link; ComponentLink2URL: https://www.we-online.com/redexpert/spec/830202536501?ad; Mount: Surface Mount; Min Operating Temperature: -40 °C; Max Operating Temperature: 85 °C; Packaging: Tape and Reel; Case/Size Code: CFPS-72; Length: 7 mm; Width: 5 mm; Height: 1.8 mm; Application: Processor, Ethernet; Frequency: 10 MHz
footprint WE-SPXO_CFPS-72
pins: 1 Enable, 2 GND, 3 Output, 4 +Vs

## 830205028309
designator Y?, comment 32.768 kHz
WE-SPXO Simple Packaged Quartz Oscillator, CFPS-104, 32.768 kHz, 25 ppm, 3.3 V; Manufacturer Part Number: 830205028309; Manufacturer: Wurth Elektronik; Frequency Stability: 25 ppm; Output Logic: CMOS; Supply Voltage: 3.3 V; Category: Oscillators; Match Code: WE-SPXO; ComponentLink1Description: Website Link; ComponentLink1URL: https://www.we-online.com/redexpert/article/830205028309?ad; ComponentLink2Description: Datasheet Link; ComponentLink2URL: https://www.we-online.com/redexpert/spec/830205028309?ad; Mount: Surface Mount; Min Operating Temperature: -40 °C; Max Operating Temperature: 85 °C; Packaging: Tape and Reel; Case/Size Code: CFPS-104; Length: 3.2 mm; Width: 2.5 mm; Height: 1.2 mm; Application: Real Time Clock; Frequency: 32.768 kHz
footprint WE-SPXO_CFPS-104
pins: 1 Standby, 2 GND, 3 Output, 4 +Vs

## 830205075709
designator Y?, comment 40 MHz
WE-SPXO Simple Packaged Quartz Oscillator, CFPS-39, 40 MHz, 25 ppm, 3.3 V; Manufacturer Part Number: 830205075709; Manufacturer: Wurth Elektronik; Frequency Stability: 25 ppm; Output Logic: CMOS; Supply Voltage: 3.3 V; Category: Oscillators; Match Code: WE-SPXO; ComponentLink1Description: Website Link; ComponentLink1URL: https://www.we-online.com/redexpert/article/830205075709?ad; ComponentLink2Description: Datasheet Link; ComponentLink2URL: https://www.we-online.com/redexpert/spec/830205075709?ad; Mount: Surface Mount; Min Operating Temperature: -40 °C; Max Operating Temperature: 85 °C; Packaging: Tape and Reel; Case/Size Code: CFPS-39; Length: 3.2 mm; Width: 2.5 mm; Height: 1.2 mm; Application: Processor, USB, 3G/4G/5G, CAN, Wi-Fi; Frequency: 40 MHz
footprint WE-SPXO_CFPS-39
pins: 1 Enable, 2 GND, 3 Output, 4 +Vs

## 830205297709
designator Y?, comment 32.768 kHz
WE-SPXO Simple Packaged Quartz Oscillator, CFPS-102, 32.768 kHz, 25 ppm, 1.8 V; Manufacturer Part Number: 830205297709; Manufacturer: Wurth Elektronik; Frequency Stability: 25 ppm; Output Logic: CMOS; Supply Voltage: 1.8 V; Category: Oscillators; Match Code: WE-SPXO; ComponentLink1Description: Website Link; ComponentLink1URL: https://www.we-online.com/redexpert/article/830205297709?ad; ComponentLink2Description: Datasheet Link; ComponentLink2URL: https://www.we-online.com/redexpert/spec/830205297709?ad; Mount: Surface Mount; Min Operating Temperature: -40 °C; Max Operating Temperature: 85 °C; Packaging: Tape and Reel; Case/Size Code: CFPS-102; Length: 3.2 mm; Width: 2.5 mm; Height: 1.2 mm; Application: Real Time Clock; Frequency: 32.768 kHz
footprint WE-SPXO_CFPS-102
pins: 1 Standby, 2 GND, 3 Output, 4 +Vs

## 830205312509
designator Y?, comment 32 MHz
WE-SPXO Simple Packaged Quartz Oscillator, CFPS-39, 32 MHz, 25 ppm, 3.3 V; Manufacturer Part Number: 830205312509; Manufacturer: Wurth Elektronik; Frequency Stability: 25 ppm; Output Logic: CMOS; Supply Voltage: 3.3 V; Category: Oscillators; Match Code: WE-SPXO; ComponentLink1Description: Website Link; ComponentLink1URL: https://www.we-online.com/redexpert/article/830205312509?ad; ComponentLink2Description: Datasheet Link; ComponentLink2URL: https://www.we-online.com/redexpert/spec/830205312509?ad; Mount: Surface Mount; Min Operating Temperature: -40 °C; Max Operating Temperature: 85 °C; Packaging: Tape and Reel; Case/Size Code: CFPS-39; Length: 3.2 mm; Width: 2.5 mm; Height: 1.2 mm; Application: Processor, Bluetooth; Frequency: 32 MHz
footprint WE-SPXO_CFPS-39
pins: 1 Enable, 2 GND, 3 Output, 4 +Vs

## 830205530509
designator Y?, comment 12 MHz
WE-SPXO Simple Packaged Quartz Oscillator, CFPS-39, 12 MHz, 25 ppm, 3.3 V; Manufacturer Part Number: 830205530509; Manufacturer: Wurth Elektronik; Frequency Stability: 25 ppm; Output Logic: CMOS; Supply Voltage: 3.3 V; Category: Oscillators; Match Code: WE-SPXO; ComponentLink1Description: Website Link; ComponentLink1URL: https://www.we-online.com/redexpert/article/830205530509?ad; ComponentLink2Description: Datasheet Link; ComponentLink2URL: https://www.we-online.com/redexpert/spec/830205530509?ad; Mount: Surface Mount; Min Operating Temperature: -40 °C; Max Operating Temperature: 85 °C; Packaging: Tape and Reel; Case/Size Code: CFPS-39; Length: 3.2 mm; Width: 2.5 mm; Height: 1.2 mm; Application: Processor, USB, CAN; Frequency: 12 MHz
footprint WE-SPXO_CFPS-39
pins: 1 Enable, 2 GND, 3 Output, 4 +Vs

## 830205530709
designator Y?, comment 27 MHz
WE-SPXO Simple Packaged Quartz Oscillator, CFPS-39, 27 MHz, 25 ppm, 3.3 V; Manufacturer Part Number: 830205530709; Manufacturer: Wurth Elektronik; Frequency Stability: 25 ppm; Output Logic: CMOS; Supply Voltage: 3.3 V; Category: Oscillators; Match Code: WE-SPXO; ComponentLink1Description: Website Link; ComponentLink1URL: https://www.we-online.com/redexpert/article/830205530709?ad; ComponentLink2Description: Datasheet Link; ComponentLink2URL: https://www.we-online.com/redexpert/spec/830205530709?ad; Mount: Surface Mount; Min Operating Temperature: -40 °C; Max Operating Temperature: 85 °C; Packaging: Tape and Reel; Case/Size Code: CFPS-39; Length: 3.2 mm; Width: 2.5 mm; Height: 1.2 mm; Application: Processor; Frequency: 27 MHz
footprint WE-SPXO_CFPS-39
pins: 1 Enable, 2 GND, 3 Output, 4 +Vs

## 830205889709
designator Y?, comment 16 MHz
WE-SPXO Simple Packaged Quartz Oscillator, CFPS-39, 16 MHz, 25 ppm, 3.3 V; Manufacturer Part Number: 830205889709; Manufacturer: Wurth Elektronik; Frequency Stability: 25 ppm; Output Logic: CMOS; Supply Voltage: 3.3 V; Category: Oscillators; Match Code: WE-SPXO; ComponentLink1Description: Website Link; ComponentLink1URL: https://www.we-online.com/redexpert/article/830205889709?ad; ComponentLink2Description: Datasheet Link; ComponentLink2URL: https://www.we-online.com/redexpert/spec/830205889709?ad; Mount: Surface Mount; Min Operating Temperature: -40 °C; Max Operating Temperature: 85 °C; Packaging: Tape and Reel; Case/Size Code: CFPS-39; Length: 3.2 mm; Width: 2.5 mm; Height: 1.2 mm; Application: Processor, CAN, Bluetooth; Frequency: 16 MHz
footprint WE-SPXO_CFPS-39
pins: 1 Enable, 2 GND, 3 Output, 4 +Vs

## 830205896509
designator Y?, comment 24 MHz
WE-SPXO Simple Packaged Quartz Oscillator, CFPS-39, 24 MHz, 25 ppm, 3.3 V; Manufacturer Part Number: 830205896509; Manufacturer: Wurth Elektronik; Frequency Stability: 25 ppm; Output Logic: CMOS; Supply Voltage: 3.3 V; Category: Oscillators; Match Code: WE-SPXO; ComponentLink1Description: Website Link; ComponentLink1URL: https://www.we-online.com/redexpert/article/830205896509?ad; ComponentLink2Description: Datasheet Link; ComponentLink2URL: https://www.we-online.com/redexpert/spec/830205896509?ad; Mount: Surface Mount; Min Operating Temperature: -40 °C; Max Operating Temperature: 85 °C; Packaging: Tape and Reel; Case/Size Code: CFPS-39; Length: 3.2 mm; Width: 2.5 mm; Height: 1.2 mm; Application: Processor, USB, Bluetooth; Frequency: 24 MHz
footprint WE-SPXO_CFPS-39
pins: 1 Enable, 2 GND, 3 Output, 4 +Vs

## 830206385009
designator Y?, comment 32.768 kHz
WE-SPXO Simple Packaged Quartz Oscillator, CFPS-107, 32.768 kHz, 30 ppm, 1.8 V; Manufacturer Part Number: 830206385009; Manufacturer: Wurth Elektronik; Frequency Stability: 30 ppm; Output Logic: CMOS; Supply Voltage: 1.8 V; Category: Oscillators; Match Code: WE-SPXO; ComponentLink1Description: Website Link; ComponentLink1URL: https://www.we-online.com/redexpert/article/830206385009?ad; ComponentLink2Description: Datasheet Link; ComponentLink2URL: https://www.we-online.com/redexpert/spec/830206385009?ad; Mount: Surface Mount; Min Operating Temperature: -40 °C; Max Operating Temperature: 85 °C; Packaging: Tape and Reel; Case/Size Code: CFPS-107; Length: 2.5 mm; Width: 2 mm; Height: 0.95 mm; Application: Real Time Clock; Frequency: 32.768 kHz
footprint WE-SPXO_CFPS-107
pins: 1 Tristate, 2 GND, 3 Output, 4 +Vs

## 830206415701
designator Y?, comment 40 MHz
WE-SPXO Simple Packaged Quartz Oscillator, IQXO-791, 40 MHz, 25 ppm, 3.3 V; Manufacturer Part Number: 830206415701; Manufacturer: Wurth Elektronik; Frequency Stability: 25 ppm; Output Logic: CMOS; Supply Voltage: 3.3 V; Category: Oscillators; Match Code: WE-SPXO; ComponentLink1Description: Website Link; ComponentLink1URL: https://www.we-online.com/redexpert/article/830206415701?ad; ComponentLink2Description: Datasheet Link; ComponentLink2URL: https://www.we-online.com/redexpert/spec/830206415701?ad; Mount: Surface Mount; Min Operating Temperature: -20 °C; Max Operating Temperature: 70 °C; Packaging: Tape and Reel; Case/Size Code: IQXO-791; Length: 2.5 mm; Width: 2 mm; Height: 1 mm; Application: Processor, USB, 3G/4G/5G, CAN, Wi-Fi; Frequency: 40 MHz
footprint WE-SPXO_IQXO-791
pins: 1 Enable, 2 GND, 3 Output, 4 +Vs

## 830206415801
designator Y?, comment 32 MHz
WE-SPXO Simple Packaged Quartz Oscillator, IQXO-791, 32 MHz, 25 ppm, 3.3 V; Manufacturer Part Number: 830206415801; Manufacturer: Wurth Elektronik; Frequency Stability: 25 ppm; Output Logic: CMOS; Supply Voltage: 3.3 V; Category: Oscillators; Match Code: WE-SPXO; ComponentLink1Description: Website Link; ComponentLink1URL: https://www.we-online.com/redexpert/article/830206415801?ad; ComponentLink2Description: Datasheet Link; ComponentLink2URL: https://www.we-online.com/redexpert/spec/830206415801?ad; Mount: Surface Mount; Min Operating Temperature: -20 °C; Max Operating Temperature: 70 °C; Packaging: Tape and Reel; Case/Size Code: IQXO-791; Length: 2.5 mm; Width: 2 mm; Height: 1 mm; Application: Processor, Bluetooth; Frequency: 32 MHz
footprint WE-SPXO_IQXO-791
pins: 1 Enable, 2 GND, 3 Output, 4 +Vs

## 830206924301
designator Y?, comment 50 MHz
WE-SPXO Simple Packaged Quartz Oscillator, IQXO-794, 50 MHz, 25 ppm, 1.8 V; Manufacturer Part Number: 830206924301; Manufacturer: Wurth Elektronik; Frequency Stability: 25 ppm; Output Logic: CMOS; Supply Voltage: 1.8 V; Category: Oscillators; Match Code: WE-SPXO; ComponentLink1Description: Website Link; ComponentLink1URL: https://www.we-online.com/redexpert/article/830206924301?ad; ComponentLink2Description: Datasheet Link; ComponentLink2URL: https://www.we-online.com/redexpert/spec/830206924301?ad; Mount: Surface Mount; Min Operating Temperature: -20 °C; Max Operating Temperature: 70 °C; Packaging: Tape and Reel; Case/Size Code: IQXO-794; Length: 2.5 mm; Width: 2 mm; Height: 1 mm; Application: Processor, Ethernet, PCI Express, PHY; Frequency: 50 MHz
footprint WE-SPXO_IQXO-794
pins: 1 Enable, 2 GND, 3 Output, 4 +Vs